# Altium footprint library Oscillators.PcbLib: 3 footprints
Each footprint in its own frame and in the unit in brackets; x right, y up, seen from the top. Pads: shape width x height; smd on the part's side, far side on the other; paste and mask are expansions set on the pad; w line width, h text height; cw(c..) or ccw(c..) is an arc to the next point about the centre after c.
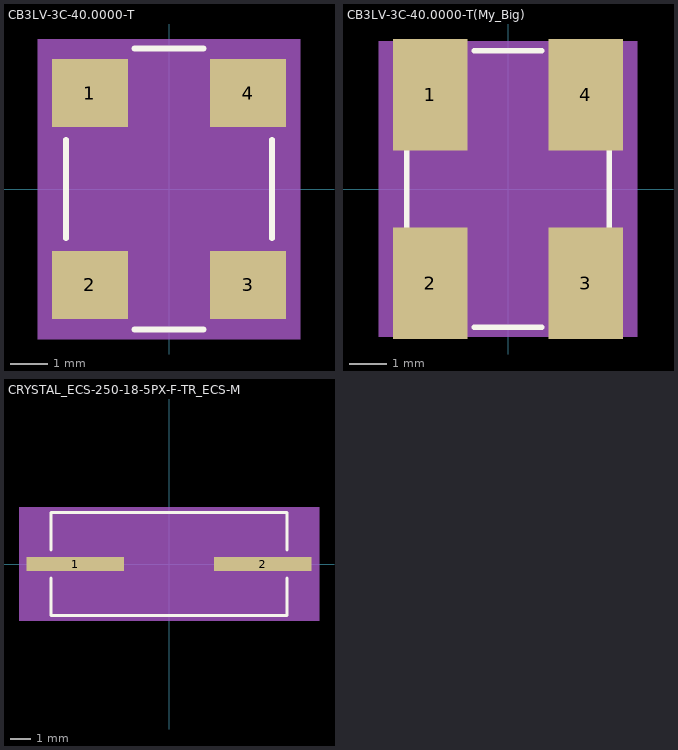
[diagram p0: the footprints below, top view; thin cyan lines are the x and y axes]

## CB3LV-3C-40.0000-T [mil]
pads (4):
  rect 79x71 smd paste-35.5 mask+0: 1(-82.5,100) 2(-82.5,-100) 3(82.5,-100) 4(82.5,100)
Top Overlay:
  lines w6: -107.5,-51.4 -107.5,51.4 ; -35.89,-146.5 35.89,-146.5 ; -35.89,146.5 35.89,146.5 ; 107.5,-51.4 107.5,51.4
Mechanical 5:
  region: 137,-156.5 -137,-156.5 -137,156.5 137,156.5
Mechanical 13:
  lines w0: -12,141.5 ccw(c0,141.5) 12,141.5
  lines w1: -102.5,-141.5 -102.5,141.5 102.5,141.5 102.5,-141.5 -102.5,-141.5
Mechanical 15:
  region: -112.5,-145.5 -132,-145.5 -132,145.5 -112.5,145.5 -112.5,151.5 112.5,151.5 112.5,145.5 132,145.5 132,-145.5 112.5,-145.5 112.5,-151.5 -112.5,-151.5
  lines w6: -132,-145.5 -112.5,-145.5 -112.5,-151.5 112.5,-151.5 112.5,-145.5 132,-145.5 132,145.5 112.5,145.5 112.5,151.5 -112.5,151.5 -112.5,145.5 -132,145.5 -132,-145.5
3D body "CB3LV-3C-40_0000-T.step": height 71.1, standoff 0, extent -102.52,-141.5 102.52,141.5
3D body: height 10, standoff 0, extent 0,0 10,10

## CB3LV-3C-40.0000-T(My_Big) [mil]
pads (4):
  rect 79x118.11 smd paste-35.5 mask+0: 1(-82.5,100) 2(-82.5,-100) 3(82.5,-100) 4(82.5,100)
Top Overlay:
  lines w6: -107.5,-51.4 -107.5,51.4 ; -35.89,-146.5 35.89,-146.5 ; -35.89,146.5 35.89,146.5 ; 107.5,-51.4 107.5,51.4
Mechanical 5:
  region: 137,-156.5 -137,-156.5 -137,156.5 137,156.5
Mechanical 13:
  lines w0: -12,141.5 ccw(c0,141.5) 12,141.5
  lines w1: -102.5,-141.5 -102.5,141.5 102.5,141.5 102.5,-141.5 -102.5,-141.5
Mechanical 15:
  region: -112.5,-145.5 -132,-145.5 -132,145.5 -112.5,145.5 -112.5,151.5 112.5,151.5 112.5,145.5 132,145.5 132,-145.5 112.5,-145.5 112.5,-151.5 -112.5,-151.5
  lines w6: -132,-145.5 -112.5,-145.5 -112.5,-151.5 112.5,-151.5 112.5,-145.5 132,-145.5 132,145.5 112.5,145.5 112.5,151.5 -112.5,151.5 -112.5,145.5 -132,145.5 -132,-145.5
3D body: height 10, standoff 0, extent 0,0 10,10
3D body "CB3LV-3C-40_0000-T.step": height 71.1, standoff 0, extent -102.52,-141.5 102.52,141.5

## CRYSTAL_ECS-250-18-5PX-F-TR_ECS-M [mil]
pads (2):
  rect 188.75x28.03 smd paste+0 mask+0: 1(-181.22,0) 2(181.22,0)
Top Overlay:
  lines w6: -228.5,-27.12 -228.5,-99.5 228.5,-99.5 228.5,-27.12 ; -228.5,27.12 -228.5,99.5 228.5,99.5 228.5,27.12
Mechanical 5:
  region: 290.59,-109.5 -290.59,-109.5 -290.59,109.5 290.59,109.5
Mechanical 13:
  circle w0: c-86.84,0 r3
  lines w0: -12,94.5 ccw(c0,94.5) 12,94.5
  lines w1: -223.5,-94.5 -223.5,94.5 223.5,94.5 223.5,-94.5 -223.5,-94.5
3D body "CRYSTAL_ECS-250-18-5PX-F-TR_ECS.step": height 169.09, standoff 0, extent -259.84,-89.49 259.84,99.49
3D body: height 10, standoff 0, extent 0,0 10,10